# EAGLE library part MAX1668 (library Brett)
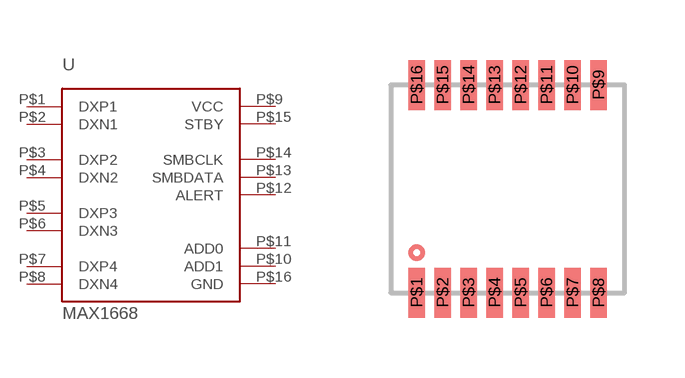
[diagram p0: symbol with the pads of QSOP16; footprint QSOP16]

Designator prefix -

## MAX1668SMD  [QSOP16]
P$1  DXP1
P$2  DXN1
P$3  DXP2
P$4  DXN2
P$5  DXP3
P$6  DXN3
P$7  DXP4
P$8  DXN4
P$9  VCC
P$10  ADD1
P$11  ADD0
P$12  ALERT
P$13  SMBDATA
P$14  SMBCLK
P$15  STBY
P$16  GND

## Footprint QSOP16 (pad centres in mm)
smd 0.42 x 1.25: P$1 0,0; P$2 0.65,0; P$3 1.3,0; P$4 1.95,0; P$5 2.6,0; P$6 3.25,0; P$7 3.9,0; P$8 4.55,0; P$9 4.55,5.2; P$10 3.9,5.2; P$11 3.25,5.2; P$12 2.6,5.2; P$13 1.95,5.2; P$14 1.3,5.2; P$15 0.65,5.2; P$16 0,5.2